# Altium footprint library SSOP-54.PcbLib: 1 footprints
Each footprint in its own frame and in the unit in brackets; x right, y up, seen from the top. Pads: shape width x height; smd on the part's side, far side on the other; paste and mask are expansions set on the pad; w line width, h text height; cw(c..) or ccw(c..) is an arc to the next point about the centre after c.
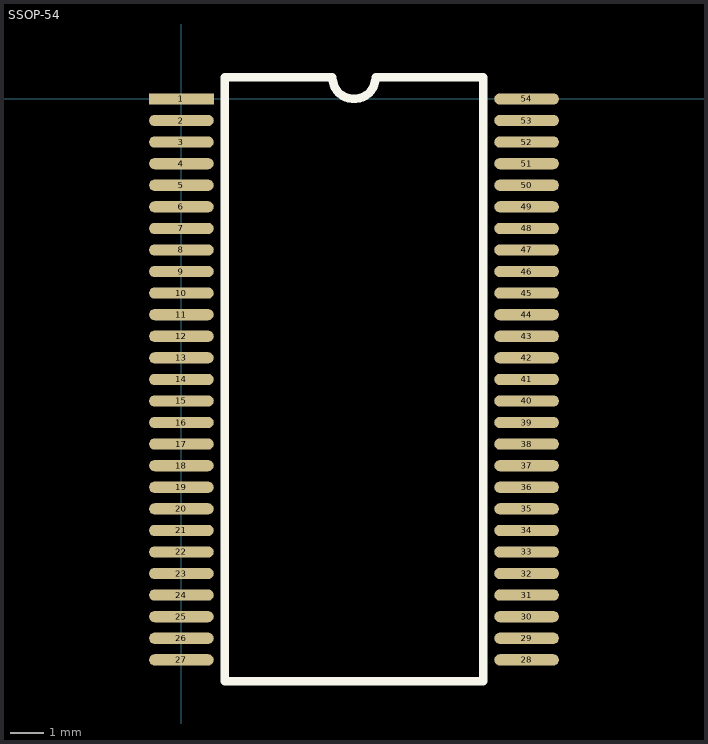
[diagram p0: the footprint, top view; thin cyan lines are the x and y axes]

## SSOP-54 [mil]
pads (54):
  rect 75x13 smd: 1(0,0)
  oval 75x13 smd: 2(0,-25) 3(0,-50) 4(0,-75) 5(0,-100) 6(0,-125) 7(0,-150) 8(0,-175) 9(0,-200) 10(0,-225) 11(0,-250) 12(0,-275) 13(0,-300) 14(0,-325) 15(0,-350) 16(0,-375) 17(0,-400) 18(0,-425) 19(0,-450) 20(0,-475) 21(0,-500) 22(0,-525) 23(0,-550) 24(0,-575) 25(0,-600) 26(0,-625) 27(0,-650) 28(400,-650) 29(400,-625) 30(400,-600) 31(400,-575) 32(400,-550) 33(400,-525) 34(400,-500) 35(400,-475) 36(400,-450) 37(400,-425) 38(400,-400) 39(400,-375) 40(400,-350) 41(400,-325) 42(400,-300) 43(400,-275) 44(400,-250) 45(400,-225) 46(400,-200) 47(400,-175) 48(400,-150) 49(400,-125) 50(400,-100) 51(400,-75) 52(400,-50) 53(400,-25) 54(400,0)
Top Overlay:
  lines w10: 50,-675 350,-675 350,25 225,25 cw(c200,25) 175,25 50,25 50,-675